# EAGLE library part ESP-M2 (library Ooo-IC-Microcontroller)
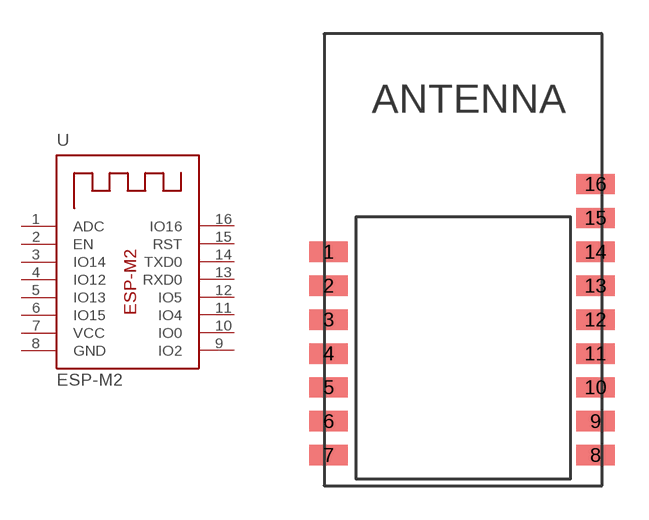
[diagram p1: symbol with the pads of ESP-M2; footprint ESP-M2]

Designator prefix U

## ESP-M2  [ESP-M2]
1  ADC  in
2  EN  in
3  IO14
4  IO12
5  IO13
6  IO15
7  VCC  pwr
8  GND  pwr
9  IO2
10  IO0
11  IO4
12  IO5
13  RXD0  in
14  TXD0  out
15  RST  in
16  IO16

## Footprint ESP-M2 (pad centres in mm)
smd 1.7 x 0.9: 1 -6.1,1.45; 2 -6.1,-0.05; 3 -6.1,-1.55; 4 -6.1,-3.05; 5 -6.1,-4.55; 6 -6.1,-6.05; 7 -6.1,-7.55; 8 5.7,-7.55; 9 5.7,-6.05; 10 5.7,-4.55; 11 5.7,-3.05; 12 5.7,-1.55; 13 5.7,-0.05; 14 5.7,1.45; 15 5.7,2.95; 16 5.7,4.45